# EAGLE library part 691321300020 (library Wuerth_Elektronik_eiCan_Terminal_Blocks_v2.0)
WR-TBL Serie 321 - 3.81mm Vertical PCB Header , 20 pins
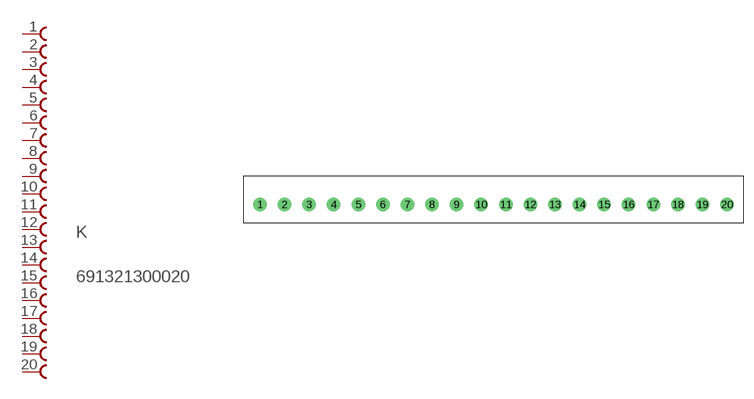
[diagram p31: symbol with the pads of 691321300020; footprint 691321300020]

Designator prefix K

## 691321300020  [691321300020]
1  1  pas
2  2  pas
3  3  pas
4  4  pas
5  5  pas
6  6  pas
7  7  pas
8  8  pas
9  9  pas
10  10  pas
11  11  pas
12  12  pas
13  13  pas
14  14  pas
15  15  pas
16  16  pas
17  17  pas
18  18  pas
19  19  pas
20  20  pas

## Footprint 691321300020 (pad centres in mm)
WR-TBL Serie 321 - 3.81mm Vertical PCB Header , 20 Pins
drill 1.4 round: 1 -26.67,0; 2 -22.86,0; 3 -19.05,0; 4 -15.24,0; 5 -11.43,0; 6 -7.62,0; 7 -3.81,0; 8 0,0; 9 3.81,0; 10 7.62,0; 11 11.43,0; 12 15.24,0; 13 19.05,0; 14 22.86,0; 15 26.67,0; 16 30.48,0; 17 34.29,0; 18 38.1,0; 19 41.91,0; 20 45.72,0